# Altium schematic symbol library Ti Microcontrollers MSP430.SchLib: 3 symbols
Pins are listed as number, name and electrical type; pins without a type are passive.

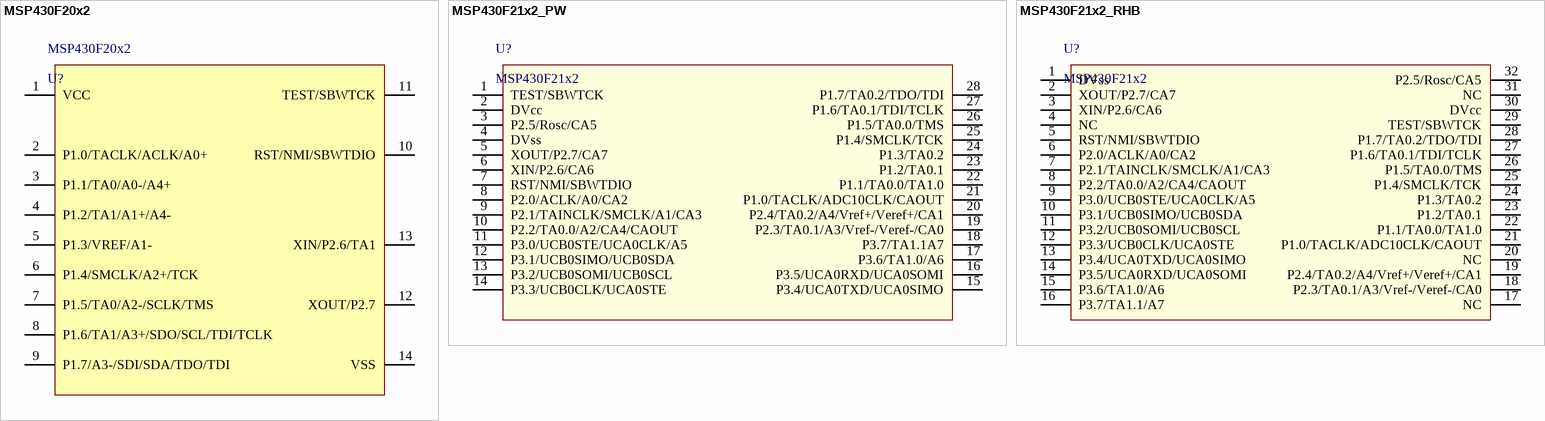
[diagram p0: symbols MSP430F20x2 to MSP430F21x2_RHB]

## MSP430F20x2
designator MSP430F20x2, comment U?
footprint TSSOP14 (TSSOP, 14-Leads, Body 5.00x4.40mm, Pitch 0.65mm, IPC High Density)
pins: 1 VCC, 2 P1.0/TACLK/ACLK/A0+, 3 P1.1/TA0/A0-/A4+, 4 P1.2/TA1/A1+/A4-, 5 P1.3/VREF/A1-, 6 P1.4/SMCLK/A2+/TCK, 7 P1.5/TA0/A2-/SCLK/TMS, 8 P1.6/TA1/A3+/SDO/SCL/TDI/TCLK, 9 P1.7/A3-/SDI/SDA/TDO/TDI, 10 RST/NMI/SBWTDIO, 11 TEST/SBWTCK, 12 XOUT/P2.7, 13 XIN/P2.6/TA1, 14 VSS

## MSP430F21x2_PW
designator U?, comment MSP430F21x2
MSP430F21x2_PW
footprint TSSOP28 (TSOP, 28-Leads, Body 9.70x4.40mm, Pitch 0.65mm, IPC High Density)
pins: 1 TEST/SBWTCK, 2 DVcc, 3 P2.5/Rosc/CA5, 4 DVss, 5 XOUT/P2.7/CA7, 6 XIN/P2.6/CA6, 7 RST/NMI/SBWTDIO, 8 P2.0/ACLK/A0/CA2, 9 P2.1/TAINCLK/SMCLK/A1/CA3, 10 P2.2/TA0.0/A2/CA4/CAOUT, 11 P3.0/UCB0STE/UCA0CLK/A5, 12 P3.1/UCB0SIMO/UCB0SDA, 13 P3.2/UCB0SOMI/UCB0SCL, 14 P3.3/UCB0CLK/UCA0STE, 15 P3.4/UCA0TXD/UCA0SIMO, 16 P3.5/UCA0RXD/UCA0SOMI, 17 P3.6/TA1.0/A6, 18 P3.7/TA1.1A7, 19 P2.3/TA0.1/A3/Vref-/Veref-/CA0, 20 P2.4/TA0.2/A4/Vref+/Veref+/CA1, 21 P1.0/TACLK/ADC10CLK/CAOUT, 22 P1.1/TA0.0/TA1.0, 23 P1.2/TA0.1, 24 P1.3/TA0.2, 25 P1.4/SMCLK/TCK, 26 P1.5/TA0.0/TMS, 27 P1.6/TA0.1/TDI/TCLK, 28 P1.7/TA0.2/TDO/TDI

## MSP430F21x2_RHB
designator U?, comment MSP430F21x2
pins: 1 DVss, 2 XOUT/P2.7/CA7, 3 XIN/P2.6/CA6, 4 NC, 5 RST/NMI/SBWTDIO, 6 P2.0/ACLK/A0/CA2, 7 P2.1/TAINCLK/SMCLK/A1/CA3, 8 P2.2/TA0.0/A2/CA4/CAOUT, 9 P3.0/UCB0STE/UCA0CLK/A5, 10 P3.1/UCB0SIMO/UCB0SDA, 11 P3.2/UCB0SOMI/UCB0SCL, 12 P3.3/UCB0CLK/UCA0STE, 13 P3.4/UCA0TXD/UCA0SIMO, 14 P3.5/UCA0RXD/UCA0SOMI, 15 P3.6/TA1.0/A6, 16 P3.7/TA1.1/A7, 17 NC, 18 P2.3/TA0.1/A3/Vref-/Veref-/CA0, 19 P2.4/TA0.2/A4/Vref+/Veref+/CA1, 20 NC, 21 P1.0/TACLK/ADC10CLK/CAOUT, 22 P1.1/TA0.0/TA1.0, 23 P1.2/TA0.1, 24 P1.3/TA0.2, 25 P1.4/SMCLK/TCK, 26 P1.5/TA0.0/TMS, 27 P1.6/TA0.1/TDI/TCLK, 28 P1.7/TA0.2/TDO/TDI, 29 TEST/SBWTCK, 30 DVcc, 31 NC, 32 P2.5/Rosc/CA5